# Altium footprint library SnapEDApcb.PcbLib: 1 footprints
Each footprint in its own frame and in the unit in brackets; x right, y up, seen from the top. Pads: shape width x height; smd on the part's side, far side on the other; paste and mask are expansions set on the pad; w line width, h text height; cw(c..) or ccw(c..) is an arc to the next point about the centre after c.
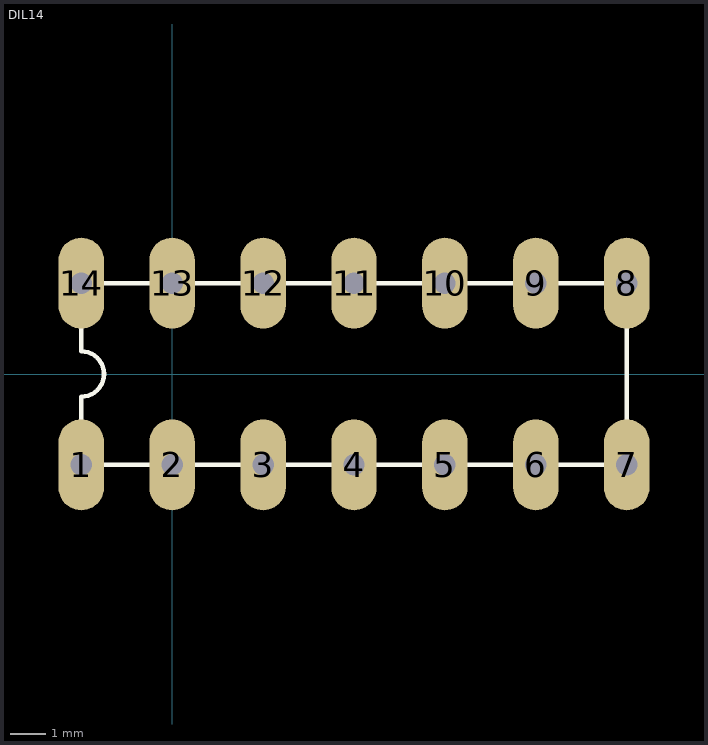
[diagram p0: the footprint, top view; thin cyan lines are the x and y axes]

## DIL14 [mm]
pads (28):
  oval 1.27x2.54 hole 0.5: 1(-2.54,-2.54) 2(0,-2.54) 3(2.54,-2.54) 4(5.08,-2.54) 5(7.62,-2.54) 6(10.16,-2.54) 7(12.7,-2.54) 8(12.7,2.54) 9(10.16,2.54) 10(7.62,2.54) 11(5.08,2.54) 12(2.54,2.54) 13(0,2.54) 14(-2.54,2.54)
  round 0.6 hole 0.6 unplated: ""(-2.54,-2.54) ""(-2.54,2.54) ""(0,-2.54) ""(0,2.54) ""(2.54,-2.54) ""(2.54,2.54) ""(5.08,-2.54) ""(5.08,2.54) ""(7.62,-2.54) ""(7.62,2.54) ""(10.16,-2.54) ""(10.16,2.54) ""(12.7,-2.54) ""(12.7,2.54)
Top Overlay:
  lines w0.127: -2.54,-2.54 12.7,-2.54 12.7,2.54 -2.54,2.54 -2.54,0.635 cw(c-2.54,0) -1.905,0 cw(c-2.54,0) -2.54,-0.635 -2.54,-2.54
3D body "IR2112.STEP": height 5.33, standoff -4.06, extent -5.969,-13.862 13.335,-5.95